# EAGLE library part DF12-80DS (library ELL-i-Connectors)
Hirose DF12 80-pin male (receptable) 0.5 mm pitch SMT board-to-board connector Datasheet <https://www.sparkfun.com/datasheets/Cellular%20Modules/ADH8066connector.pdf> (from SparkFun)
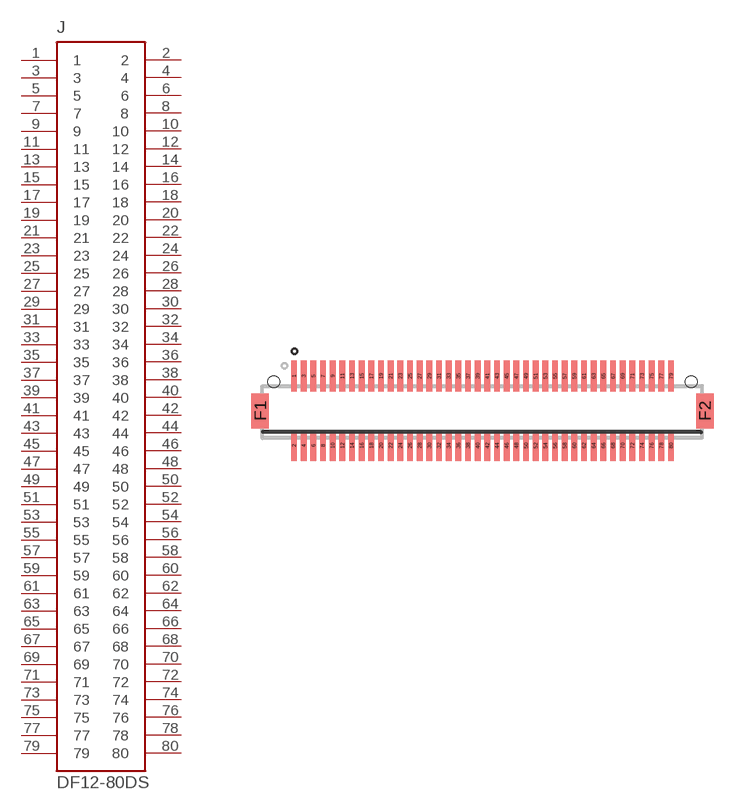
[diagram p5: symbol with the pads of DF12-80DS-0.5V; footprint DF12-80DS-0.5V]

Designator prefix J

## DF12-80DS  [DF12-80DS-0.5V]
1  1
2  2
3  3
4  4
5  5
6  6
7  7
8  8
9  9
10  10
11  11
12  12
13  13
14  14
15  15
16  16
17  17
18  18
19  19
20  20
21  21
22  22
23  23
24  24
25  25
26  26
27  27
28  28
29  29
30  30
31  31
32  32
33  33
34  34
35  35
36  36
37  37
38  38
39  39
40  40
41  41
42  42
43  43
44  44
45  45
46  46
47  47
48  48
49  49
50  50
51  51
52  52
53  53
54  54
55  55
56  56
57  57
58  58
59  59
60  60
61  61
62  62
63  63
64  64
65  65
66  66
67  67
68  68
69  69
70  70
71  71
72  72
73  73
74  74
75  75
76  76
77  77
78  78
79  79
80  80

## Footprint DF12-80DS-0.5V (pad centres in mm)
Hirose DF12 80-pin male (receptable) pattern with metal fitting and boss Datasheet <https://www.sparkfun.com/datasheets/Cellular%20Modules/ADH8066connector.pdf> (from SparkFun)
smd 0.3 x 1.6: 1 -9.75,1.8; 2 -9.75,-1.8; 3 -9.25,1.8; 4 -9.25,-1.8; 5 -8.75,1.8; 6 -8.75,-1.8; 7 -8.25,1.8; 8 -8.25,-1.8; 9 -7.75,1.8; 10 -7.75,-1.8; 11 -7.25,1.8; 12 -7.25,-1.8; 13 -6.75,1.8; 14 -6.75,-1.8; 15 -6.25,1.8; 16 -6.25,-1.8; 17 -5.75,1.8; 18 -5.75,-1.8; 19 -5.25,1.8; 20 -5.25,-1.8; 21 -4.75,1.8; 22 -4.75,-1.8; 23 -4.25,1.8; 24 -4.25,-1.8; 25 -3.75,1.8; 26 -3.75,-1.8; 27 -3.25,1.8; 28 -3.25,-1.8; 29 -2.75,1.8; 30 -2.75,-1.8; 31 -2.25,1.8; 32 -2.25,-1.8; 33 -1.75,1.8; 34 -1.75,-1.8; 35 -1.25,1.8; 36 -1.25,-1.8; 37 -0.75,1.8; 38 -0.75,-1.8; 39 -0.25,1.8; 40 -0.25,-1.8; 41 0.25,1.8; 42 0.25,-1.8; 43 0.75,1.8; 44 0.75,-1.8; 45 1.25,1.8; 46 1.25,-1.8; 47 1.75,1.8; 48 1.75,-1.8; 49 2.25,1.8; 50 2.25,-1.8; 51 2.75,1.8; 52 2.75,-1.8; 53 3.25,1.8; 54 3.25,-1.8; 55 3.75,1.8; 56 3.75,-1.8; 57 4.25,1.8; 58 4.25,-1.8; 59 4.75,1.8; 60 4.75,-1.8; 61 5.25,1.8; 62 5.25,-1.8; 63 5.75,1.8; 64 5.75,-1.8; 65 6.25,1.8; 66 6.25,-1.8; 67 6.75,1.8; 68 6.75,-1.8; 69 7.25,1.8; 70 7.25,-1.8; 71 7.75,1.8; 72 7.75,-1.8; 73 8.25,1.8; 74 8.25,-1.8; 75 8.75,1.8; 76 8.75,-1.8; 77 9.25,1.8; 78 9.25,-1.8; 79 9.75,1.8; 80 9.75,-1.8
smd 0.9 x 1.8: F1 -11.5,0; F2 11.5,0
hole 0.6 at -10.8,1.5
hole 0.6 at 10.8,1.5